# Altium schematic symbol library RF_Mixer.SchLib: 8 symbols
Pins are listed as number, name and electrical type; pins without a type are passive.

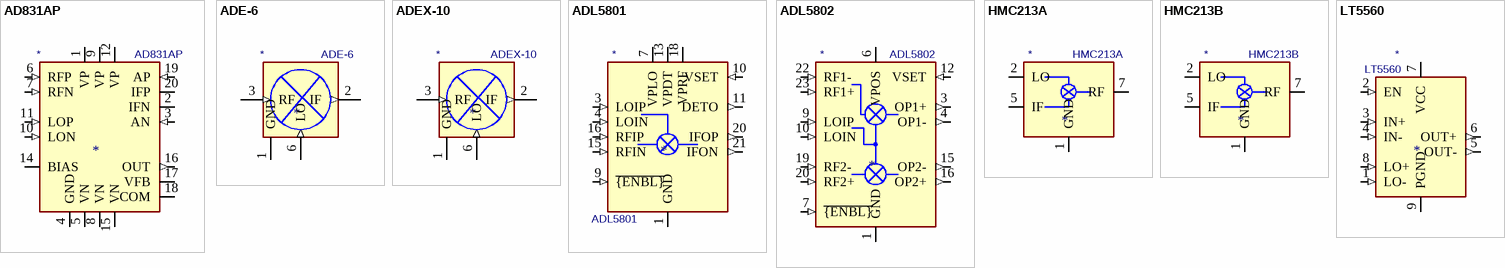
[diagram p0: symbols AD831AP to LT5560]

## AD831AP
designator *  value AD831AP
ki_keywords: mixer rf; ki_description: Doubly Balanced monolithic Mixer, 500 MHz BW, +24 dBm, IP3, LNA and LO driver, PLCC-20; ki_fp_filters: PLCC*; Footprint: Package_LCC:PLCC-20; Supplier: https://www.analog.com/media/en/technical-documentation/data-sheets/AD831.pdf
footprint PLCC-20
pins: 1 VP (power), 2 IFN (oc), 3 AN (in), 4 GND (power), 5 VN (power), 6 RFP (in), 7 RFN (in), 8 VN (power), 9 VP (power), 10 LON (in), 11 LOP (in), 12 VP (power), 13 GND hidden, 14 BIAS, 15 VN (power), 16 OUT (out), 17 VFB, 18 COM, 19 AP (in), 20 IFP (oc)

## ADE-6
designator *  value ADE-6
ki_keywords: mixer rf; ki_description: Mixer, +7 dBm LO, 0.05 to 250 MHz, CD542; ki_fp_filters: Mini?Circuits*CD542*; Footprint: RF_Mini-Circuits:Mini-Circuits_CD542_LandPatternPL-052; Supplier: https://www.minicircuits.com/pdfs/ADE-6.pdf
footprint Mini-Circuits_CD542_LandPatternPL-052
pins: 1 GND (power), 2 IF (out), 3 RF (in), 4 GND hidden, 5 GND hidden, 6 LO (in)

## ADEX-10
designator *  value ADEX-10
ki_keywords: mixer rf; ki_description: Mixer, +7 dBm LO, 10 to 1000 MHz, CD542; ki_fp_filters: Mini?Circuits*CD542*; Footprint: RF_Mini-Circuits:Mini-Circuits_CD542_LandPatternPL-052; Supplier: https://www.minicircuits.com/pdfs/ADEX-10.pdf
footprint Mini-Circuits_CD542_LandPatternPL-052
pins: 1 GND (power), 2 IF (out), 3 RF (in), 4 GND hidden, 5 GND hidden, 6 LO (in)

## ADL5801
designator *  value ADL5801
ki_keywords: mixer active; ki_description: 10 MHz to 6 GHz Active Mixer, LFCSP-24; ki_fp_filters: LFCSP*4x4mm*P0.5mm*EP2.642x2.642mm*; Footprint: Package_CSP:LFCSP-VQ-24-1EP_4x4mm_P0.5mm_EP2.642x2.642mm; Supplier: https://www.analog.com/media/en/technical-documentation/data-sheets/ADL5801.pdf
footprint LFCSP-VQ-24-1EP_4x4mm_P0.5mm_EP2.642x2.642mm
pins: 1 GND (power), 2 GND hidden, 3 LOIP (in), 4 LOIN (in), 5 GND hidden, 6 GND hidden, 7 VPLO (power), 8 GND hidden, 9 ~{{ENBL}} (in), 10 VSET (in), 11 DETO (out), 12 GND hidden, 13 VPDT (power), 14 GND hidden, 15 RFIN (in), 16 RFIP (in), 17 GND hidden, 18 VPRF (power), 19 GND hidden, 20 IFOP (out), 21 IFON (out), 22 NC (in) hidden, 23 GND hidden, 24 VPLO hidden, 25 GND hidden

## ADL5802
designator *  value ADL5802
ki_keywords: mixer rf; ki_description: 100 MHz to 6 GHz Dual Channel Active Mixer, LFCSP-24; ki_fp_filters: LFCSP*1EP*4x4mm*P0.5mm*; Footprint: Package_CSP:LFCSP-24-1EP_4x4mm_P0.5mm_EP2.5x2.5mm; Supplier: https://www.analog.com/media/en/technical-documentation/data-sheets/ADL5802.pdf
footprint LFCSP-24-1EP_4x4mm_P0.5mm_EP2.5x2.5mm
pins: 1 GND (power), 2 GND hidden, 3 OP1+ (out), 4 OP1- (out), 5 GND hidden, 6 VPOS (power), 7 ~{{ENBL}} (in), 8 GND hidden, 9 LOIP (in), 10 LOIN (in), 11 GND hidden, 12 VSET (in), 13 VPOS hidden, 14 GND hidden, 15 OP2- (out), 16 OP2+ (out), 17 GND hidden, 18 GND hidden, 19 RF2- (in), 20 RF2+ (in), 21 GND hidden, 22 RF1- (in), 23 RF1+ (in), 24 VPOS hidden, 25 GND hidden

## HMC213A
designator *  value HMC213A
ki_keywords: mixer active; ki_description: 1.5-4.5GHz double-balanced mixer, MS8; ki_fp_filters: MSOP*3x3mm*P0.65mm*; Footprint: Package_SO:MSOP-8_3x3mm_P0.65mm; Supplier: https://www.analog.com/media/en/technical-documentation/data-sheets/hmc213a.pdf
footprint MSOP-8_3x3mm_P0.65mm
pins: 1 GND (power), 2 LO, 3 GND hidden, 4 NC (in) hidden, 5 IF, 6 GND hidden, 7 RF, 8 GND hidden

## HMC213B
designator *  value HMC213B
ki_keywords: mixer active; ki_description: 1.5-4.5GHz double-balanced mixer, MS8; ki_fp_filters: MSOP*3x3mm*P0.65mm*; Footprint: Package_SO:MSOP-8_3x3mm_P0.65mm; Supplier: https://www.analog.com/media/en/technical-documentation/data-sheets/hmc213B.pdf
footprint MSOP-8_3x3mm_P0.65mm
pins: 1 GND (power), 2 LO, 3 GND hidden, 4 NC (in) hidden, 5 IF, 6 GND hidden, 7 RF, 8 GND hidden

## LT5560
designator *  value LT5560
ki_keywords: rf mixer; ki_description: 0.01MHz to 4GHz Low Power Active Mixer, DFN-8; ki_fp_filters: DFN*3x3mm*P0.5mm*; Footprint: Package_DFN_QFN:DFN-8-1EP_3x3mm_P0.5mm_EP1.66x2.38mm; Supplier: https://www.analog.com/media/en/technical-documentation/data-sheets/5560f.pdf
footprint DFN-8-1EP_3x3mm_P0.5mm_EP1.66x2.38mm
pins: 1 LO- (in), 2 EN (in), 3 IN+ (in), 4 IN- (in), 5 OUT- (out), 6 OUT+ (out), 7 VCC (power), 8 LO+ (in), 9 PGND (power)